# EAGLE library part TPS54331 (library Deegou_IC)
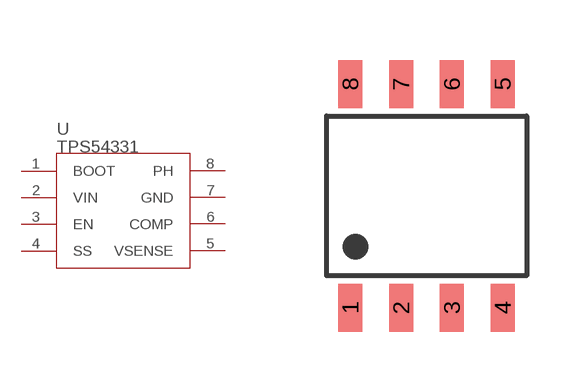
[diagram p41: symbol with the pads of SOIC8-6.0; footprint SOIC8-6.0]

Designator prefix U

## TPS54331  [SOIC8-6.0]
1  BOOT
2  VIN
3  EN
4  SS
5  VSENSE
6  COMP
7  GND
8  PH

## Footprint SOIC8-6.0 (pad centres in mm)
smd 0.6 x 1.2: 1 -1.905,-2.8; 2 -0.635,-2.8; 3 0.635,-2.8; 4 1.905,-2.8; 5 1.905,2.8; 6 0.635,2.8; 7 -0.635,2.8; 8 -1.905,2.8